# Altium footprint library TSSOP-24.PcbLib: 1 footprints
Each footprint in its own frame and in the unit in brackets; x right, y up, seen from the top. Pads: shape width x height; smd on the part's side, far side on the other; paste and mask are expansions set on the pad; w line width, h text height; cw(c..) or ccw(c..) is an arc to the next point about the centre after c.
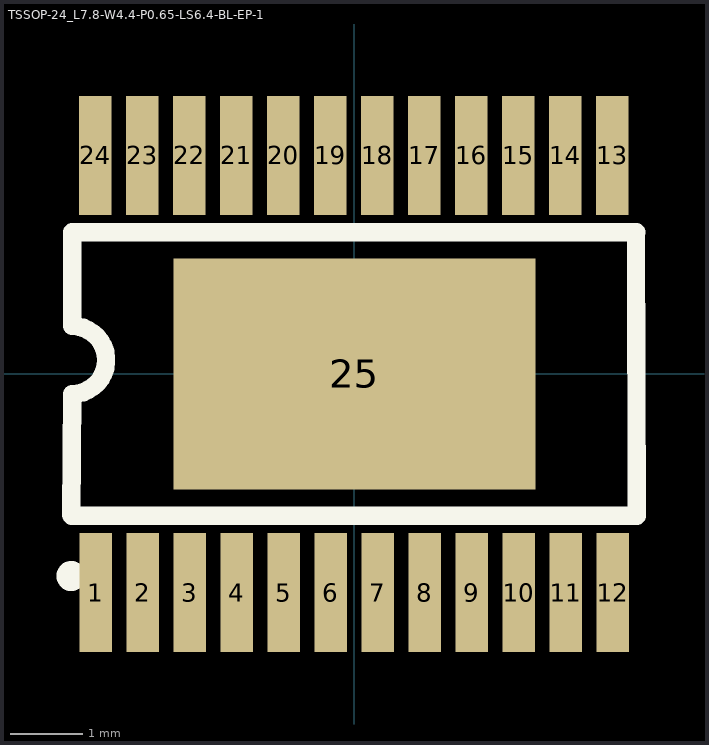
[diagram p0: the footprint, top view; thin cyan lines are the x and y axes]

## TSSOP-24_L7.8-W4.4-P0.65-LS6.4-BL-EP-1 [mm]
pads (25):
  rect 0.45x1.65 smd paste+0 mask+0.051: 1(-3.575,-3.023) 2(-2.925,-3.023) 3(-2.275,-3.023) 4(-1.625,-3.023) 5(-0.975,-3.023) 6(-0.325,-3.023) 7(0.325,-3.023) 8(0.975,-3.023) 9(1.625,-3.023) 10(2.275,-3.023) 11(2.925,-3.023) 12(3.575,-3.023) 13(3.575,3.023) 14(2.925,3.023) 15(2.275,3.023) 16(1.625,3.023) 17(0.975,3.023) 18(0.325,3.023) 19(-0.325,3.023) 20(-0.975,3.023) 21(-1.625,3.023) 22(-2.275,3.023) 23(-2.925,3.023) 24(-3.575,3.023)
  rect 5x3.2 smd paste+0 mask+0.051: 25(0.007,0)
Top Overlay:
  circle w0.254: c-3.91,-2.794 r0.08
  lines w0.254: -3.912,-1.946 -3.898,-0.277 ccw(c-3.898,0.193) -3.898,0.663 ; -3.901,-1.959 -3.094,-1.959 3.899,-1.959 ; -3.898,0.688 -3.898,1.958 3.902,1.958 ; 3.9,1.958 3.912,-1.959